# Altium footprint library Fancy.PcbLib: 140 footprints (part 6 of 9)
Each footprint in its own frame and in the unit in brackets; x right, y up, seen from the top. Pads: shape width x height; smd on the part's side, far side on the other; paste and mask are expansions set on the pad; w line width, h text height; cw(c..) or ccw(c..) is an arc to the next point about the centre after c.
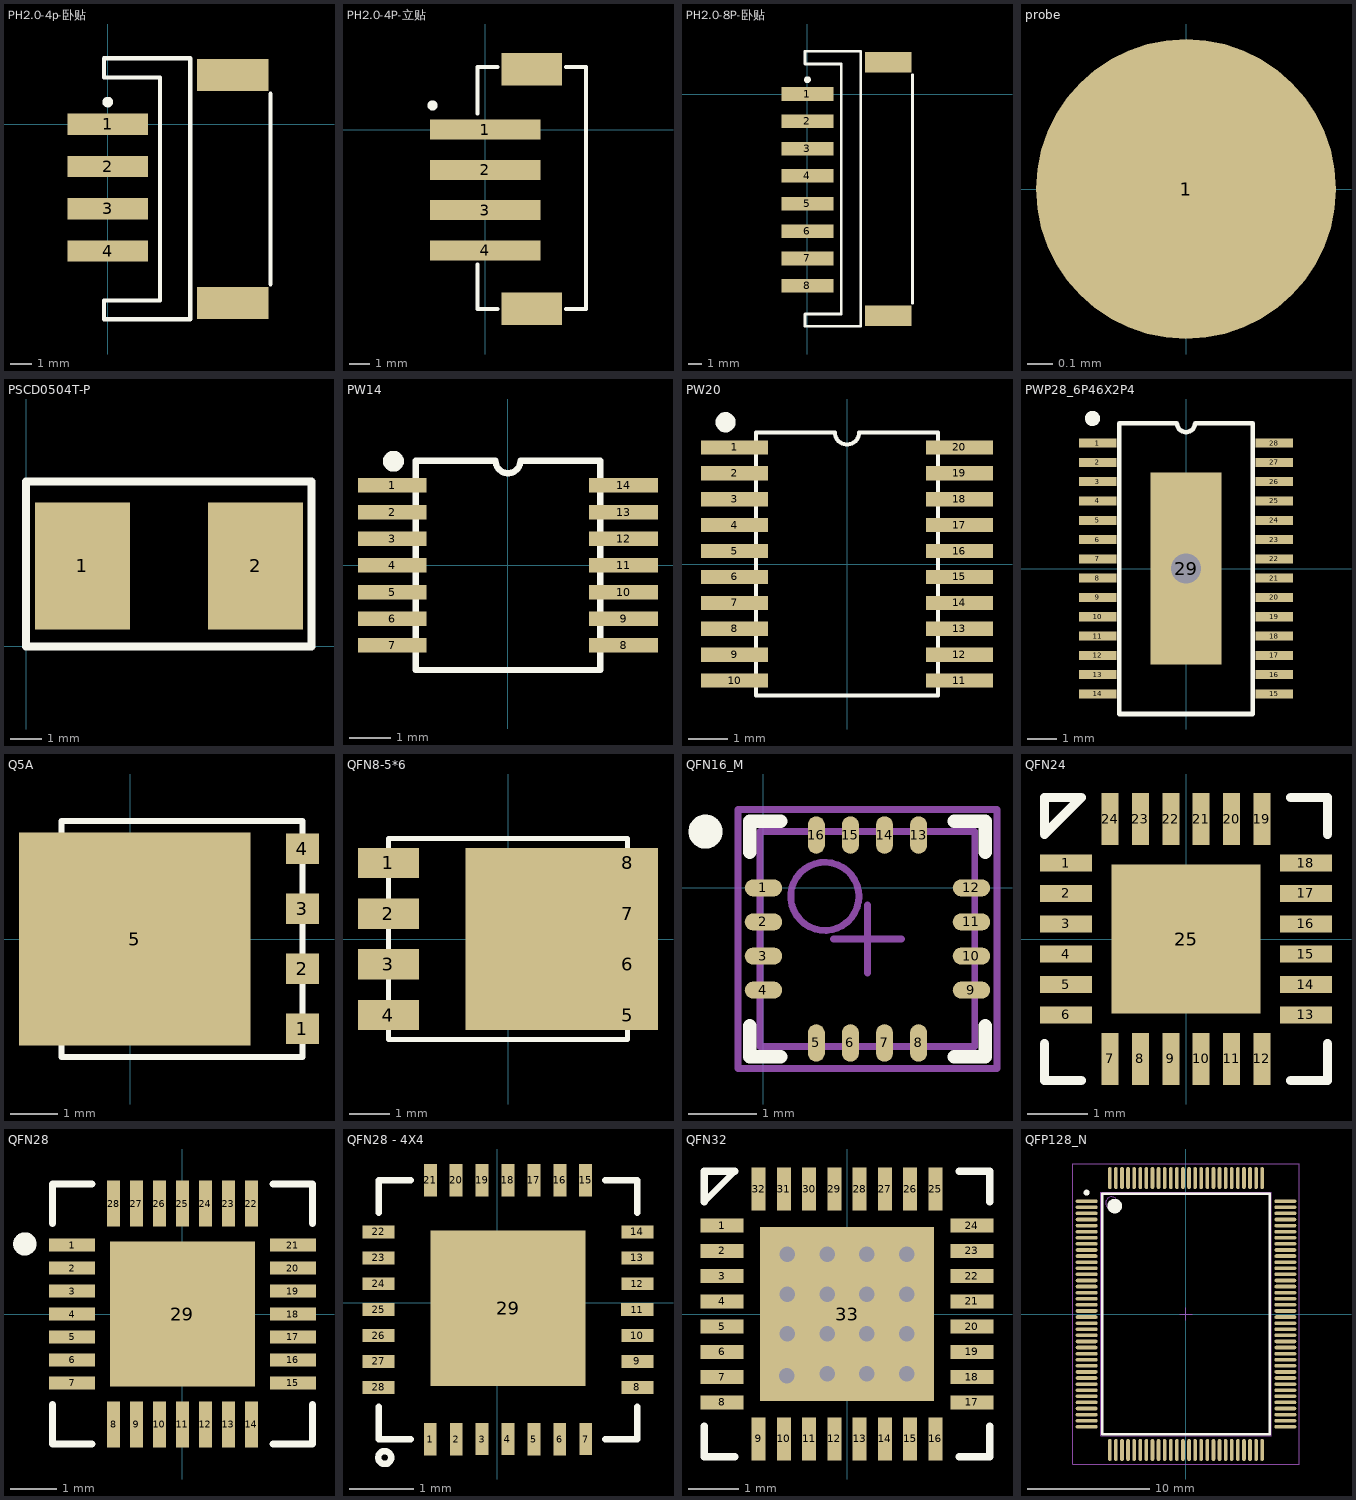
[diagram p5: the footprints below, top view; thin cyan lines are the x and y axes]

## PH2.0-4p-卧贴 [mm]
pads (6):
  rect 3.8x1 smd: 1(0,0) 2(0,-2) 3(0,-4) 4(0,-6)
  rect 3.4x1.5 smd: ""(5.917,-8.461) ""(5.917,2.334)
Top Overlay:
  circle w0.25: c0,1.05 r0.125
  lines w0.2: 2.6,-9.223 3.9,-9.223 3.9,3.127 2.6,3.127 -0.179,3.127 -0.179,2.207 2.473,2.207 2.473,-8.334 -0.179,-8.334 -0.179,-9.223 2.615,-9.223 ; 7.695,-7.572 7.695,1.445

## PH2.0-4P-立贴 [mm]
pads (6):
  rect 5.5x1 smd: 1(0,0) 2(0,-2) 3(0,-4) 4(0,-6)
  rect 3x1.6 smd: ""(2.3,-8.9) ""(2.3,3)
Top Overlay:
  circle w0.25: c-2.625,1.2 r0.125
  lines w0.2: -0.4,-6.7 -0.4,-8.9 0.6,-8.9 ; -0.4,0.8 -0.4,3.1 0.6,3.1 ; 4,-8.9 5,-8.9 5,3.1 4,3.1

## PH2.0-8P-卧贴 [mm]
pads (10):
  rect 3.8x1 smd: 1(0,0) 2(0,-2) 3(0,-4) 4(0,-6) 5(0,-8.052) 6(0,-10.052) 7(0,-12.052) 8(0,-14.052)
  rect 3.4x1.5 smd: ""(5.917,2.334) ""(5.918,-16.256)
Top Overlay:
  circle w0.25: c0,1.05 r0.125
  lines w0.2: 2.6,-17.018 3.9,-17.018 3.9,3.127 2.6,3.127 -0.179,3.127 -0.179,2.207 2.473,2.207 2.473,-16.129 -0.179,-16.129 -0.179,-17.018 2.615,-17.018 ; 7.695,1.42 7.696,-15.342

## probe [mm]
pads (1):
  round 1.2 smd paste+0 mask+0.102: 1(0,0)

## PSCD0504T-P [mm]
pads (2):
  rect 3x4 smd: 1(1.778,2.54) 2(7.239,2.54)
Top Overlay:
  lines w0.254: 0,0 0,5.2 9,5.2 9,0 0,0

## PW14 [mil]
pads (14):
  rect 66x14 smd: 1(-111,76.77) 2(-111,51.18) 3(-111,25.59) 4(-111,0) 5(-111,-25.59) 6(-111,-51.18) 7(-111,-76.77) 8(111,-76.77) 9(111,-51.18) 10(111,-25.59) 11(111,0) 12(111,25.59) 13(111,51.18) 14(111,76.77)
Top Overlay:
  circle w10: c-110,100 r5
  lines w6: -88.5,-100.5 88.5,-100.5 88.5,100.5 12,100.5 cw(c0,100.5) -12,100.5 -88.5,100.5 -88.5,-100.5

## PW20 [mil]
pads (20):
  rect 66x14 smd: 1(-111,115.16) 2(-111,89.57) 3(-111,63.98) 4(-111,38.39) 5(-111,12.8) 6(-111,-12.8) 7(-111,-38.39) 8(-111,-63.98) 9(-111,-89.57) 10(-111,-115.16) 11(111,-115.16) 12(111,-89.57) 13(111,-63.98) 14(111,-38.39) 15(111,-12.8) 16(111,12.8) 17(111,38.39) 18(111,63.98) 19(111,89.57) 20(111,115.16)
Top Overlay:
  circle w10: c-120,140 r5
  lines w3.94: -12,130 -67.51,130 -90,130 -90,-130 -67.51,-130 90,-130 90,130 12,130
  lines w4: -12,130 ccw(c0,130) 12,130

## PWP28_6P46X2P4 [mil]
pads (29):
  rect 50x12 smd: 1(-117,166.34) 2(-117,140.75) 3(-117,115.16) 4(-117,89.57) 5(-117,63.98) 6(-117,38.39) 7(-117,12.8) 8(-117,-12.8) 9(-117,-38.39) 10(-117,-63.98) 11(-117,-89.57) 12(-117,-115.16) 13(-117,-140.75) 14(-117,-166.34) 15(117,-166.34) 16(117,-140.75) 17(117,-115.16) 18(117,-89.57) 19(117,-63.98) 20(117,-38.39) 21(117,-12.8) 22(117,12.8) 23(117,38.39) 24(117,63.98) 25(117,89.57) 26(117,115.16) 27(117,140.75) 28(117,166.34)
  rect 94.49x254.33 smd: 29(0,0)
via 0,0 diameter 60 hole 40
Top Overlay:
  circle w10: c-124,199 r5
  lines w6: -88.5,-192.91 -88.5,192.91 -12,192.91 ccw(c0,192.91) 12,192.91 88.5,192.91 88.5,-192.91 -88.5,-192.91

## Q5A [mm]
pads (5):
  rect 0.7x0.65 smd: 1(3.65,-1.9) 2(3.65,-0.63) 3(3.65,0.64) 4(3.65,1.91)
  rect 4.9x4.5 smd: 5(0.1,0)
Top Overlay:
  lines w0.127: -1.45,-2.5 1.1,-2.5 3.65,-2.5 3.65,0 3.65,2.5 1.1,2.5 -1.45,2.5 -1.45,0 -1.45,-2.5

## QFN8-5*6 [mil]
pads (9):
  rect 60x30 smd: 1(-118,75) 2(-118,25) 3(-118,-25) 4(-118,-75) 5(118,-75) 6(118,-25) 7(118,25) 8(118,75)
  rect 190x180 smd: ""(53,0)
Top Overlay:
  lines w5: -118,-99 0,-99 118,-99 118,0 118,99 0,99 -118,99 -118,0 -118,-99

## QFN16_M [mm]
pads (16):
  oval 0.55x0.25 smd: 1(0,0) 2(0,-0.5) 3(0,-1) 4(0,-1.5) 9(3.05,-1.5) 10(3.05,-1) 11(3.05,-0.5) 12(3.05,0)
  oval 0.25x0.55 smd: 5(0.775,-2.275) 6(1.275,-2.275) 7(1.775,-2.275) 8(2.275,-2.275) 13(2.275,0.775) 14(1.775,0.775) 15(1.275,0.775) 16(0.775,0.775)
Top Overlay:
  circle w0.25: c-0.85,0.825 r0.125
  lines w0.2: -0.2,-2.025 -0.2,-2.475 0.25,-2.475 ; -0.2,0.525 -0.2,0.975 0.25,0.975 ; 2.8,-2.475 3.25,-2.475 3.25,-2.025 ; 2.8,0.975 3.25,0.975 3.25,0.525
Mechanical 13:
  circle w0.1: c0.9,-0.125 r0.5
  lines w0.1: -0.05,-2.325 3.1,-2.325 3.1,0.825 -0.05,0.825 -0.05,-2.325
Mechanical 15:
  lines w0.1: 1.025,-0.75 2.025,-0.75 ; 1.525,-1.25 1.525,-0.25 ; -0.375,-2.65 3.425,-2.65 3.425,1.15 -0.375,1.15 -0.375,-2.65
3D body: height 0.9, standoff 0, extent -0.05,-2.325 3.1,0.825

## QFN24 [mm]
pads (25):
  rect 0.85x0.28 smd paste-0.14: 1(-1.975,1.25) 2(-1.975,0.75) 3(-1.975,0.25) 4(-1.975,-0.25) 5(-1.975,-0.75) 6(-1.975,-1.25) 13(1.975,-1.25) 14(1.975,-0.75) 15(1.975,-0.25) 16(1.975,0.25) 17(1.975,0.75) 18(1.975,1.25)
  rect 0.28x0.85 smd paste-0.14: 7(-1.25,-1.975) 8(-0.75,-1.975) 9(-0.25,-1.975) 10(0.25,-1.975) 11(0.75,-1.975) 12(1.25,-1.975) 19(1.25,1.975) 20(0.75,1.975) 21(0.25,1.975) 22(-0.25,1.975) 23(-0.75,1.975) 24(-1.25,1.975)
  rect 2.45x2.45 smd paste-1.212 mask-1.206: 25(0,0)
Top Overlay:
  lines w0.152: -2.329,-1.723 -2.329,-2.329 -1.723,-2.329 ; 1.723,-2.329 2.329,-2.329 2.329,-1.723 ; 1.723,2.329 2.329,2.329 2.329,1.723 ; -1.723,2.329 -2.329,1.723 -2.329,2.329 -1.723,2.329 ; -1.723,2.329 -1.723,2.329
Top Paste:
  drawing of 40 lines, arcs and shapes, not listed
Top Solder:
  region: 0.987,-1.289 0.987,1.289 1.289,1.289 1.289,-1.289
  region: 0.587,-1.289 0.587,1.289 0.2,1.289 0.2,-1.289
  region: -0.2,-1.289 -0.2,1.289 -0.587,1.289 -0.587,-1.289
  region: -1.289,-1.289 -1.289,1.289 -0.987,1.289 -0.987,-1.289
  region: -1.289,-1.289 -1.289,-0.987 1.289,-0.987 1.289,-1.289
  region: -1.289,-0.587 -1.289,-0.2 1.289,-0.2 1.289,-0.587
  region: -1.289,0.2 -1.289,0.587 1.289,0.587 1.289,0.2
  region: -1.289,0.987 -1.289,1.289 1.289,1.289 1.289,0.987
  region: -1.041,2.47 -1.46,2.47 -1.46,1.48 -1.041,1.48
  region: -0.541,2.47 -0.96,2.47 -0.96,1.48 -0.541,1.48
  region: -0.04,2.47 -0.46,2.47 -0.46,1.48 -0.04,1.48
  region: 0.46,2.47 0.04,2.47 0.04,1.48 0.46,1.48
  region: 0.96,2.47 0.541,2.47 0.541,1.48 0.96,1.48
  region: 1.46,2.47 1.041,2.47 1.041,1.48 1.46,1.48
  region: 2.47,1.46 1.48,1.46 1.48,1.04 2.47,1.04
  region: 2.47,0.96 1.48,0.96 1.48,0.54 2.47,0.54
  region: 2.47,0.46 1.48,0.46 1.48,0.04 2.47,0.04
  region: 2.47,-0.04 1.48,-0.04 1.48,-0.46 2.47,-0.46
  region: 2.47,-0.54 1.48,-0.54 1.48,-0.96 2.47,-0.96
  region: 2.47,-1.04 1.48,-1.04 1.48,-1.46 2.47,-1.46
  region: 1.46,-1.48 1.041,-1.48 1.041,-2.47 1.46,-2.47
  region: 0.96,-1.48 0.541,-1.48 0.541,-2.47 0.96,-2.47
  region: 0.46,-1.48 0.04,-1.48 0.04,-2.47 0.46,-2.47
  region: -0.04,-1.48 -0.46,-1.48 -0.46,-2.47 -0.04,-2.47
  region: -0.541,-1.48 -0.96,-1.48 -0.96,-2.47 -0.541,-2.47
  region: -1.041,-1.48 -1.46,-1.48 -1.46,-2.47 -1.041,-2.47
  region: -1.48,-1.04 -2.47,-1.04 -2.47,-1.46 -1.48,-1.46
  region: -1.48,-0.54 -2.47,-0.54 -2.47,-0.96 -1.48,-0.96
  region: -1.48,-0.04 -2.47,-0.04 -2.47,-0.46 -1.48,-0.46
  region: -1.48,0.46 -2.47,0.46 -2.47,0.04 -1.48,0.04
  region: -1.48,0.96 -2.47,0.96 -2.47,0.54 -1.48,0.54
  region: -1.48,1.46 -2.47,1.46 -2.47,1.04 -1.48,1.04

## QFN28 [mm]
pads (29):
  rect 1x0.28 smd paste-0.14: 1(-2.4,1.5) 2(-2.4,1) 3(-2.4,0.5) 4(-2.4,0) 5(-2.4,-0.5) 6(-2.4,-1) 7(-2.4,-1.5) 15(2.4,-1.5) 16(2.4,-1) 17(2.4,-0.5) 18(2.4,0) 19(2.4,0.5) 20(2.4,1) 21(2.4,1.5)
  rect 0.28x1 smd paste-0.14: 8(-1.5,-2.4) 9(-1,-2.4) 10(-0.5,-2.4) 11(0,-2.4) 12(0.5,-2.4) 13(1,-2.4) 14(1.5,-2.4) 22(1.5,2.4) 23(1,2.4) 24(0.5,2.4) 25(0,2.4) 26(-0.5,2.4) 27(-1,2.4) 28(-1.5,2.4)
  rect 3.15x3.15 smd paste-1.562 mask-1.562: 29(0,0)
Top Overlay:
  circle w0.254: c-3.429,1.524 r0.127
  lines w0.152: -2.829,-1.973 -2.829,-2.829 -1.973,-2.829 ; -2.829,1.973 -2.829,2.829 -1.973,2.829 ; 1.973,-2.829 2.829,-2.829 2.829,-1.973 ; 1.973,2.829 2.829,2.829 2.829,1.973
Top Paste:
  drawing of 53 lines, arcs and shapes, not listed
Top Solder:
  drawing of 38 lines, arcs and shapes, not listed

## QFN28 - 4X4 [mm]
pads (29):
  rect 0.198x0.5 smd: 1(-1.032,-2.108) 2(-0.632,-2.108) 5(0.568,-2.108) 6(0.968,-2.108)
  rect 0.198x0.498 smd: 3(-0.232,-2.108) 7(1.368,-2.108)
  rect 0.2x0.5 smd: 4(0.167,-2.108) 15(1.368,1.892) 16(0.968,1.892) 17(0.568,1.892) 18(0.168,1.892) 19(-0.232,1.892) 20(-0.632,1.892) 21(-1.032,1.892)
  rect 0.5x0.2 smd: 8(2.168,-1.308) 9(2.168,-0.908) 10(2.168,-0.508) 13(2.168,0.692) 14(2.168,1.092) 22(-1.832,1.092) 23(-1.832,0.692) 24(-1.832,0.292) 25(-1.832,-0.108) 26(-1.832,-0.508) 27(-1.832,-0.908) 28(-1.832,-1.308)
  rect 0.5x0.198 smd: 11(2.167,-0.108) 12(2.168,0.292)
  rect 2.4x2.4 smd: 29(0.168,-0.088)
Top Overlay:
  circle w0.1: c-1.737,-2.394 r0.099
  lines w0.102: -1.832,-1.608 -1.832,-2.108 -1.332,-2.108 ; -1.832,1.392 -1.832,1.892 -1.332,1.892 ; 1.668,-2.108 2.168,-2.108 2.168,-1.608 ; 1.668,1.892 2.168,1.892 2.168,1.392
Mechanical 15:
  lines w0.003: 0.143,0.119 0.194,0.17
3D body "User Library-QFN28-0_4.STEP": height 0.75, standoff 0, extent -1.832,-2.108 2.168,1.892

## QFN32 [mm]
pads (33):
  rect 0.85x0.28 smd paste-0.412: 1(-2.475,1.75) 2(-2.475,1.25) 3(-2.475,0.75) 4(-2.475,0.25) 5(-2.475,-0.25) 6(-2.475,-0.75) 7(-2.475,-1.25) 8(-2.475,-1.75) 17(2.475,-1.75) 18(2.475,-1.25) 19(2.475,-0.75) 20(2.475,-0.25) 21(2.475,0.25) 22(2.475,0.75) 23(2.475,1.25) 24(2.475,1.75)
  rect 0.28x0.85 smd paste-0.412: 9(-1.75,-2.475) 10(-1.25,-2.475) 11(-0.75,-2.475) 12(-0.25,-2.475) 13(0.25,-2.475) 14(0.75,-2.475) 15(1.25,-2.475) 16(1.75,-2.475) 25(1.75,2.475) 26(1.25,2.475) 27(0.75,2.475) 28(0.25,2.475) 29(-0.25,2.475) 30(-0.75,2.475) 31(-1.25,2.475) 32(-1.75,2.475)
  rect 3.45x3.45 smd paste-1.712 mask-1.714: 33(0,0)
via -1.194,-1.219 diameter 0.61 hole 0.305
via -0.394,-1.181 diameter 0.61 hole 0.305
via 0.394,-1.181 diameter 0.61 hole 0.305
via 1.181,-1.181 diameter 0.61 hole 0.305
via 1.181,-0.394 diameter 0.61 hole 0.305
via 0.394,-0.394 diameter 0.61 hole 0.305
via -0.394,-0.394 diameter 0.61 hole 0.305
via -1.181,-0.394 diameter 0.61 hole 0.305
via -1.181,0.394 diameter 0.61 hole 0.305
via -0.394,0.394 diameter 0.61 hole 0.305
via 0.394,0.394 diameter 0.61 hole 0.305
via 1.181,0.394 diameter 0.61 hole 0.305
via 1.181,1.181 diameter 0.61 hole 0.305
via 0.394,1.181 diameter 0.61 hole 0.305
via -0.394,1.181 diameter 0.61 hole 0.305
via -1.181,1.181 diameter 0.61 hole 0.305
Top Overlay:
  lines w0.127: -2.829,2.223 -2.223,2.829 -2.223,2.829
  lines w0.152: -2.829,-2.223 -2.829,-2.829 -2.223,-2.829 ; -2.829,2.223 -2.829,2.829 -2.223,2.829 ; 2.223,-2.829 2.829,-2.829 2.829,-2.223 ; 2.223,2.829 2.829,2.829 2.829,2.223
Top Paste:
  drawing of 57 lines, arcs and shapes, not listed
Top Solder:
  drawing of 42 lines, arcs and shapes, not listed

## QFP128_N [mm] "Shrink QFP, 128-Leads, Body 20x14 mm, Pitch 0.5mm, IPC Medium Density"
height 3.4
pads (128):
  oval 1.8x0.3 smd: 1(-8.15,9.25) 2(-8.15,8.75) 3(-8.15,8.25) 4(-8.15,7.75) 5(-8.15,7.25) 6(-8.15,6.75) 7(-8.15,6.25) 8(-8.15,5.75) 9(-8.15,5.25) 10(-8.15,4.75) 11(-8.15,4.25) 12(-8.15,3.75) 13(-8.15,3.25) 14(-8.15,2.75) 15(-8.15,2.25) 16(-8.15,1.75) 17(-8.15,1.25) 18(-8.15,0.75) 19(-8.15,0.25) 20(-8.15,-0.25) 21(-8.15,-0.75) 22(-8.15,-1.25) 23(-8.15,-1.75) 24(-8.15,-2.25) 25(-8.15,-2.75) 26(-8.15,-3.25) 27(-8.15,-3.75) 28(-8.15,-4.25) 29(-8.15,-4.75) 30(-8.15,-5.25) 31(-8.15,-5.75) 32(-8.15,-6.25) 33(-8.15,-6.75) 34(-8.15,-7.25) 35(-8.15,-7.75) 36(-8.15,-8.25) 37(-8.15,-8.75) 38(-8.15,-9.25) 65(8.15,-9.25) 66(8.15,-8.75) 67(8.15,-8.25) 68(8.15,-7.75) 69(8.15,-7.25) 70(8.15,-6.75) 71(8.15,-6.25) 72(8.15,-5.75) 73(8.15,-5.25) 74(8.15,-4.75) 75(8.15,-4.25) 76(8.15,-3.75) 77(8.15,-3.25) 78(8.15,-2.75) 79(8.15,-2.25) 80(8.15,-1.75) 81(8.15,-1.25) 82(8.15,-0.75) 83(8.15,-0.25) 84(8.15,0.25) 85(8.15,0.75) 86(8.15,1.25) 87(8.15,1.75) 88(8.15,2.25) 89(8.15,2.75) 90(8.15,3.25) 91(8.15,3.75) 92(8.15,4.25) 93(8.15,4.75) 94(8.15,5.25) 95(8.15,5.75) 96(8.15,6.25) 97(8.15,6.75) 98(8.15,7.25) 99(8.15,7.75) 100(8.15,8.25) 101(8.15,8.75) 102(8.15,9.25)
  oval 0.3x1.8 smd: 39(-6.25,-11.15) 40(-5.75,-11.15) 41(-5.25,-11.15) 42(-4.75,-11.15) 43(-4.25,-11.15) 44(-3.75,-11.15) 45(-3.25,-11.15) 46(-2.75,-11.15) 47(-2.25,-11.15) 48(-1.75,-11.15) 49(-1.25,-11.15) 50(-0.75,-11.15) 51(-0.25,-11.15) 52(0.25,-11.15) 53(0.75,-11.15) 54(1.25,-11.15) 55(1.75,-11.15) 56(2.25,-11.15) 57(2.75,-11.15) 58(3.25,-11.15) 59(3.75,-11.15) 60(4.25,-11.15) 61(4.75,-11.15) 62(5.25,-11.15) 63(5.75,-11.15) 64(6.25,-11.15) 103(6.25,11.15) 104(5.75,11.15) 105(5.25,11.15) 106(4.75,11.15) 107(4.25,11.15) 108(3.75,11.15) 109(3.25,11.15) 110(2.75,11.15) 111(2.25,11.15) 112(1.75,11.15) 113(1.25,11.15) 114(0.75,11.15) 115(0.25,11.15) 116(-0.25,11.15) 117(-0.75,11.15) 118(-1.25,11.15) 119(-1.75,11.15) 120(-2.25,11.15) 121(-2.75,11.15) 122(-3.25,11.15) 123(-3.75,11.15) 124(-4.25,11.15) 125(-4.75,11.15) 126(-5.25,11.15) 127(-5.75,11.15) 128(-6.25,11.15)
Top Overlay:
  circle w0.25: c-8.15,9.95 r0.125
  circle w0.6: c-5.85,8.85 r0.3
  lines w0.2: -6.85,-9.85 -6.85,9.85 6.85,9.85 6.85,-9.85 -6.85,-9.85
Mechanical 13:
  circle w0.1: c-6.1,9.1 r0.5
  lines w0.1: -7,-10 -7,10 7,10 7,-10 -7,-10
Mechanical 15:
  lines w0.1: -0.5,0 0.5,0 ; 0,-0.5 0,0.5 ; -9.3,-12.3 -9.3,12.3 9.3,12.3 9.3,-12.3 -9.3,-12.3
3D body: height 3, standoff 0, extent -7,-10 7,10